# EAGLE library part HEADER-10P-DIP-2_54MM (library SamacSys_Parts)
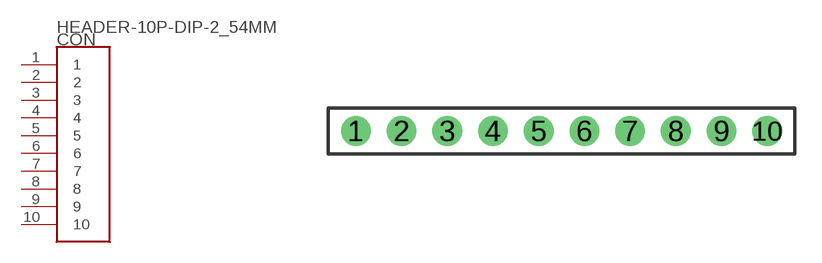
[diagram p31: symbol with the pads of HEADER-10P-DIP-2_54MM; footprint HEADER-10P-DIP-2_54MM]

Designator prefix CON

## HEADER-10P-DIP-2_54MM  [HEADER-10P-DIP-2_54MM]
1  1
2  2
3  3
4  4
5  5
6  6
7  7
8  8
9  9
10  10

## Footprint HEADER-10P-DIP-2_54MM (pad centres in mm)
825433-5
drill 1.1 pad 1.65: 1 -11.43,0; 2 -8.89,0; 3 -6.35,0; 4 -3.81,0; 5 -1.27,0; 6 1.27,0; 7 3.81,0; 8 6.35,0; 9 8.89,0; 10 11.43,0